# Altium footprint library HTSSOP.PcbLib: 1 footprints
Each footprint in its own frame and in the unit in brackets; x right, y up, seen from the top. Pads: shape width x height; smd on the part's side, far side on the other; paste and mask are expansions set on the pad; w line width, h text height; cw(c..) or ccw(c..) is an arc to the next point about the centre after c.
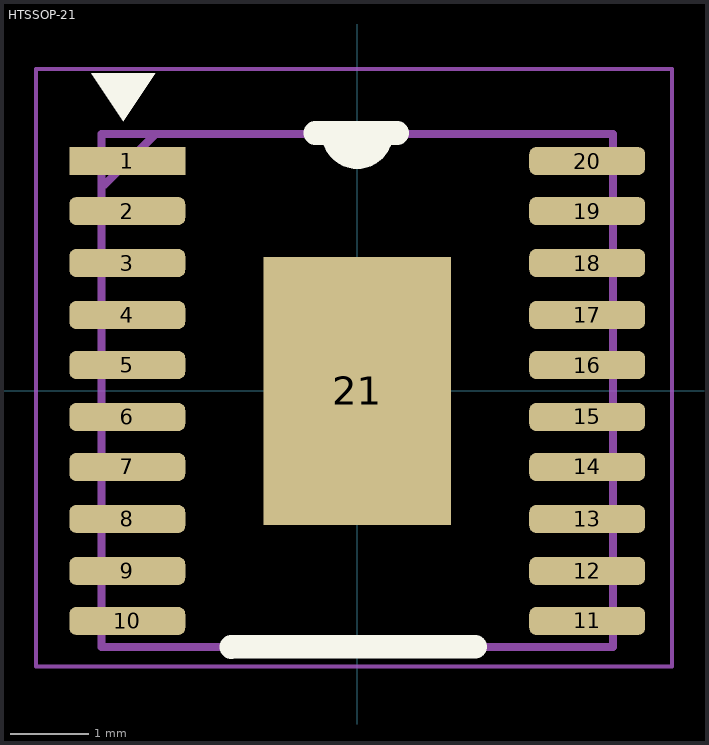
[diagram p0: the footprint, top view; thin cyan lines are the x and y axes]

## HTSSOP-21 [mil]
pads (21):
  rect 58x14 smd: 1(-115,115)
  rrect50% 58x14 smd: 2(-115,90) 3(-115,64) 4(-115,38) 5(-115,13) 6(-115,-13) 7(-115,-38) 8(-115,-64) 9(-115,-90) 10(-115,-115) 11(115,-115) 12(115,-90) 13(115,-64) 14(115,-38) 15(115,-13) 16(115,13) 17(115,38) 18(115,64) 19(115,90) 20(115,115)
  rect 94x134 smd: 21(0,0)
Top Overlay:
  region: -101,159 -133,159 -117,135
  lines w11.81: -63,-128 59.06,-127.95 ; -21,129 20,129 ; -12,129 ccw(c0,129) 12,129
Top Assembly:
  lines w3.94: -126.5,102.98 -100.91,128.57 ; -127.9,-127.95 127.95,-127.95 127.95,128.57 -127.9,128.57 -127.9,-127.95
Top Component Outline:
  lines w1.97: -160.74,-137.8 -160.74,161 157.48,161 157.48,-137.8 -160.74,-137.8
3D body "TPS77601PWP.stp": height 44.49, standoff 0, extent -125.98,-127.95 125.98,127.95